# Altium schematic symbol library Schlib3.SchLib: 23 symbols
Pins are listed as number, name and electrical type; pins without a type are passive.

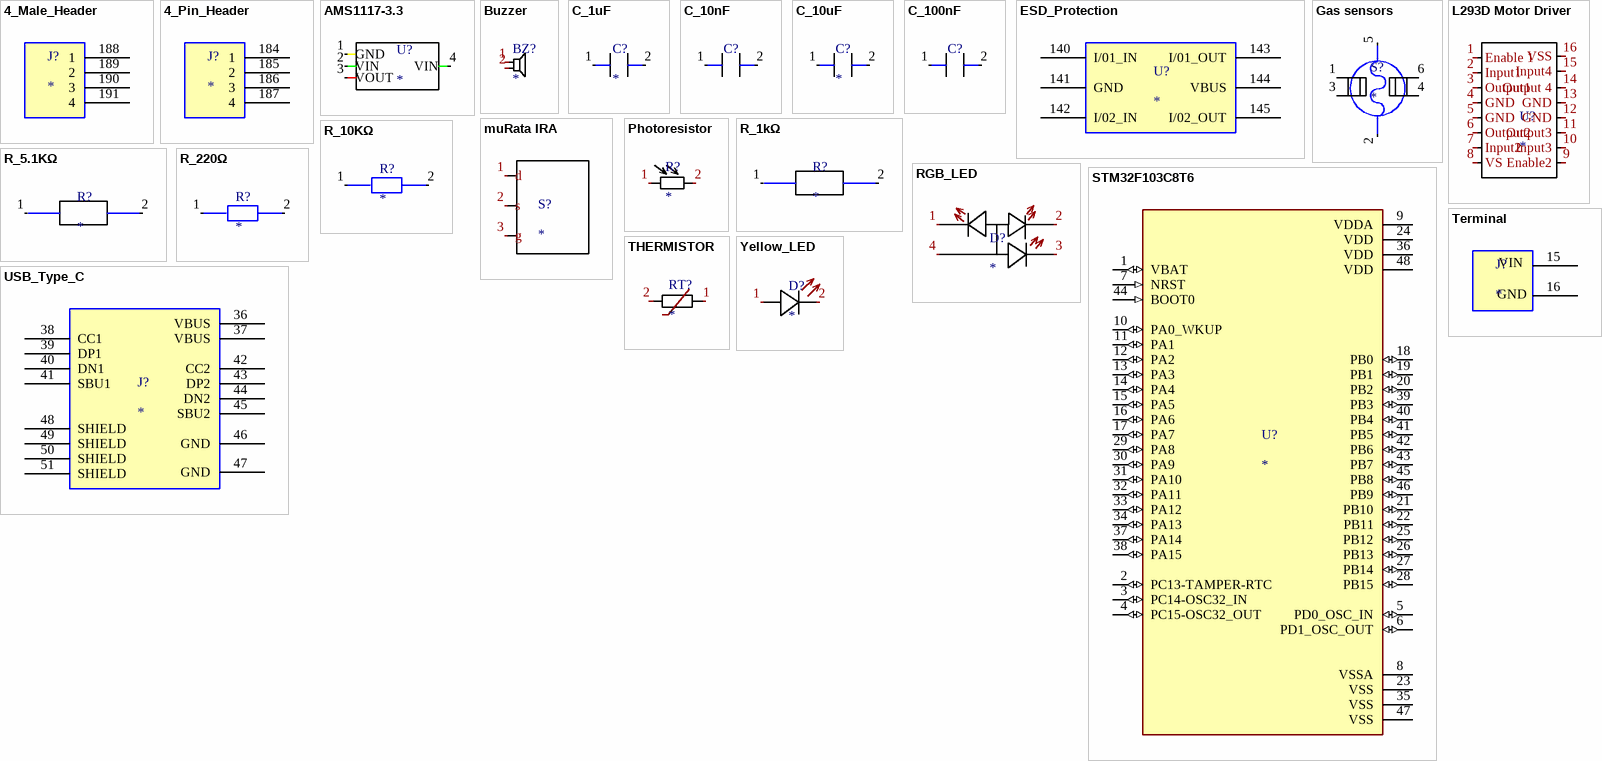
[diagram p0: symbols 4_Male_Header to Yellow_LED]

## 4_Male_Header
designator J?
PCB Mount Header, Vertical, Wire-to-Board, 4 Position, 2.54 mm Centerline, Partially Shrouded, Gold, Through Hole - Solder, Signal; MFR: TE Connectivity; MFR Part #: 3-641215-4; Supplier: LCSC; Supplier Part #: C5119032; ComponentLink1Description: Supplier Part Page; ComponentLink1URL: https://www.lcsc.com/product-detail/C5119032.html?s_z=n_q_3-641215-4&spm=wm.fly.bg.0.xh&lcsc_vid=RVdfAQAHTlQNBQIDRgNYVAdUQ1hWXlBRQ1kLVlcDRVkxVlNeQFNcX1FURVRaVzsOAxUeFF5JWBYZEEoKFBINSQcJGk4dAgUUFAk%3D
footprint 4_MALE_HEADER
pins: 188 1, 189 2, 190 3, 191 4

## 4_Pin_Header
designator J?
Couldn't find on LCSC. 4 Position Elevated Socket Connector 0.100" (2.54mm) Through Hole Tin; MFR: SMATEC; MFR Part #: ESW-104-23-T-S-LL; Supplier: SnapMagic; Supplier Part #: ESW-104-23-T-S-LL
footprint 4_PIN_HEADER
pins: 184 1, 185 2, 186 3, 187 4

## AMS1117-3.3
designator U?
1A Low Dropout (LDO) Regulator; MFU part #: AMS1117-3.3; MFU: Advanced Monolithic Systems; Supplier: LCSC; Supplier part #: C6186; ComponentLink1Description: Datasheet; ComponentLink1URL: https://www.lcsc.com/datasheet/C6187.pdf?spm=wm.sxq.inf.ggs&lcsc_vid=QAQMVlZTQQVfVwJVQgNaVAUDRlAKAlQCTwJdAQVSRFgxVlNeQVZcVFVRRFlWUzsOAxUeFF5JWBYZEEoEHg8JSQcJGk4%3D
footprint AMS1117_3.3V (SOT223, 4-Leads, Body 6.48x7.00mm (avg), Pitch 2.30mm, IPC Medium Density)
pins: 1 GND, 2 VIN, 3 VOUT, 4 VIN

## Buzzer
designator BZ?
Active Buzzer (Built-in Driving Circuit) 2.4kHz 5V Electromagnetic Through Hole,D=12mm Alarms, Buzzers, and Sirens RoHS; MF: CUI; MPU: CMI-1295IC-0585T; Supplier: LCSC; Supplier part #: C6143962; ComponentLink1Description: Datasheet; ComponentLink1URL: https://www.lcsc.com/datasheet/C6143962.pdf?spm=wm.sxq.inf.ggs___wm.fly.bg.26.xh&lcsc_vid=EwQNUwAFEwJeBFwCQlANU10CTwBcVlBTFAMMV1FeQFkxVlNeT1hfV1VeRFhaVDsOAxUeFF5JWBYZEEoKFBINSQcJGk4eFQsCAgIaSgADAwAHC0slRlNdU1RIHxUDCw%3D%3D
footprint BUZZER
pins: 1 5, 2 6

## C_1uF
designator C?
CAP CER 1uF 50V X7R 0805; MFR: Samsung Electro-Mechanics; MFR Part #: CL21B105KBFNNNE; Supplier: LCSC; Supplier Part #: C28323; ComponentLink1Description: Supplier Part Page; ComponentLink1URL: https://www.lcsc.com/product-detail/C28323.html?s_z=n_q_t_capacitor%25201uF%25200805&spm=wm.fly.bg.0.xh___wm.ssy.tc.0.tz&lcsc_vid=RVdfAQAHTlQNBQIDRgNYVAdUQ1hWXlBRQ1kLVlcDRVkxVlNeQFNcUlVTRVdZXjsOAxUeFF5JWBYZEEoKFBINSQcJGk4NBhADEA4cHktXRlVcSQwSGg0%3D
footprint CAP_1uF
pins: 1, 2

## C_10nF
designator C?
CAP CER 10nF 50V X7R 0805; MFR: Samsung Electro-Mechanics; MFR part#: CL21B103KBANNNC; Supplier: LCSC; Suppliere part #: C1710; ComponentLink1Description: Datasheet; ComponentLink1URL: https://www.lcsc.com/datasheet/C1710.pdf?spm=wm.sxq.inf.ggs___wm.fly.bg.0.xh&lcsc_vid=E1EMUFFTQQILUVRVRlhaUAYEQ1RWA1RTFlhWXwYAQlkxVlNeT1hWUldWT1NZUDsOAxUeFF5JWBYZEEoKFBINSQcJGk4dAgUUFAk%3D
footprint CAP_10nF
pins: 1, 2

## C_10uF
designator C?
CAP CER 10uF 25V X5R 0805; MFR: Samsung Electro-Mechanics; MFR Part #: CL21A106KAYNNNE; Supplier: LCSC; Supplier Part #: C15850; ComponentLink1Description: Suplpier Part Page; ComponentLink1URL: *
footprint CAP_10uF
pins: 1, 2

## C_100nF
designator C?
CAP CER 100nF 50V X7R 0805; MFR: YAGEO; MFR part#: CC0805KRX7R9BB104; Supplier: LCSC; Suppliere part #: C49678; ComponentLink1Description: Datasheet; ComponentLink1URL: https://www.lcsc.com/datasheet/C49678.pdf?spm=wm.sxq.inf.ggs___wm.ssy.bg.0.stp&lcsc_vid=FFBcUFxVQVVWBFxVE1ZfBgICQQBZBlZTQ1VaUl1TQwQxVlNeQVZfXlRXRllbUTsOAxUeFF5JWBYZEEoKFBINSQcJGk4%3D
footprint CAP_100nF
pins: 1, 2

## ESD_Protection
designator U?
ESD DIODE 5.25VWM 17VC SOT-23-6L; MFR: ST; MFR Part #: USBLC6-2SC6; Supplier: LCSC; Supplier Part #: C7519; ComponentLink1Description: Supplier Part Page; ComponentLink1URL: https://www.lcsc.com/product-detail/C7519.html?s_z=s_p_USBLC6-2SC6&spm=wm.fly.bg.0.xh&lcsc_vid=RVdfAQAHTlQNBQIDRgNYVAdUQ1hWXlBRQ1kLVlcDRVkxVlNeQFBaVF1VT1haUTsOAxUeFF5JWBYZEEoKFBINSQcJGk4dAgUUFAk%3D
footprint ESD_PROTECTION
pins: 140 I/01_IN, 141 GND, 142 I/02_IN, 143 I/01_OUT, 144 VBUS, 145 I/02_OUT

## Gas sensors
designator S?
300ppm~10000ppm Through Hole Gas Sensors; MPN: MQ-5; MF: Zhengzhou Winsen Elec Tech; Supplier: LCSC; Supplier Part #: C99297; ComponentLink1Description: Datasheet; ComponentLink1URL: https://www.lcsc.com/datasheet/C99297.pdf?spm=wm.sxq.inf.ggs___wm.ssy.em.0.tz&lcsc_vid=E1EMUFFTQQILUVRVRlhaUAYEQ1RWA1RTFlhWXwYAQlkxVlNeT1JYVF1QQ1ZWUjsOAxUeFF5JWBYZEEoKFBINSQcJGk4eFQsCAgIaSgADAwAHC0slQ1NaVFVeQVZADxALGw%3D%3D
footprint GAS_SENSOR
pins: 1, 2, 3, 4, 5, 6

## L293D Motor Driver
designator U?
PUSH-PULL FOUR CHANNEL DRIVER WITH DIODES; MFR: HGSEMI; MRF Part #: L293DDM/TR; Supplier: LCSC; Supplier Part #: C2973803; ComponentLink1Description: Datasheet; ComponentLink1URL: https://www.lcsc.com/datasheet/C2973803.pdf?spm=wm.sxq.inf.ggs___wm.fly.bg.1.xh&lcsc_vid=E1EMUFFTQQILUVRVRlhaUAYEQ1RWA1RTFlhWXwYAQlkxVlNeT1hZUFxVT1RXVzsOAxUeFF5JWBYZEEoKFBINSQcJGk4%3D
footprint L293D (SOJ, 16-Leads, Body 20.00x8.80mm, Pitch 2.54mm, IPC Low Density)
pins: 1 Enable 1, 2 Input1, 3 Output1, 4 GND, 5 GND, 6 Output2, 7 Input2, 8 VS, 9 Enable2, 10 Input3, 11 Output3, 12 GND, 13 GND, 14 Output 4, 15 Input4, 16 VSS

## muRata IRA
designator S?
Through Hole Optical Motion Sensors RoHS; MPN: IRA-S210ST01; MF: muRata; Supplier: LCSC; Supplier Part #: C152563; ComponentLink1Description: Datasheet; ComponentLink1URL: https://www.lcsc.com/datasheet/C152563.pdf?spm=wm.sxq.inf.ggs___wm.fly.bg.0.xh&lcsc_vid=E1EMUFFTQQILUVRVRlhaUAYEQ1RWA1RTFlhWXwYAQlkxVlNeT1JYVFZXRVhcUDsOAxUeFF5JWBYZEEoKFBINSQcJGk4dAgUUFAk%3D
footprint OPTICAL_SENSOR
pins: 1 d, 2 s, 3 g

## Photoresistor
designator R?
540nm 5kΩ~10kΩ 500kΩ Through Hole,P=3mm Photoresistors; MPN: GL5516; MF: Senba Sensing Tech; Supplier: LCSC; Supplier part #: C125626; ComponentLink1Description: Datasheet; ComponentLink1URL: https://www.lcsc.com/datasheet/C125626.pdf?spm=wm.sxq.inf.ggs___wm.ssy.bg.1.xh&lcsc_vid=E1EMUFFTQQILUVRVRlhaUAYEQ1RWA1RTFlhWXwYAQlkxVlNeT1JYU1dRT1heVTsOAxUeFF5JWBYZEEoKFBINSQcJGk4NBhADEA4cHktQRVVADxALGw%3D%3D
footprint PHOTORESISTOR
pins: 1, 2

## R_1kΩ
designator R?
RES 1kΩ ±1% 100mW 0805; MFU part #: FRC0603F1001TS; MFU: FOJAN; Supplier: LCSC; Supplier part #: C2907002; ComponentLink1Description: Datasheet; ComponentLink1URL: https://www.lcsc.com/datasheet/C2907002.pdf?spm=wm.sxq.inf.ggs___wm.fly.bg.3.xh&lcsc_vid=QAQMVlZTQQVfVwJVQgNaVAUDRlAKAlQCTwJdAQVSRFgxVlNeQVZcVl1fTlhaUjsOAxUeFF5JWBYZEEoEHg8JSQcJGk4%3D
footprint RES_1K
pins: 1 14, 2 15

## R_5.1KΩ
designator R?
RES 5.1kΩ ±1% 125mW 0805; MFR: UNI-ROYAL; MFR Part #: 0805W8F5101T5E; Supplier: LCSC; Supplier Part #: C27834; ComponentLink1Description: Supplier Part Page; ComponentLink1URL: https://www.lcsc.com/product-detail/C27834.html?s_z=n_q_p_resistor%25205.1K%2520ohm%25200805&spm=wm.ssy.bg.0.xh&lcsc_vid=RVdfAQAHTlQNBQIDRgNYVAdUQ1hWXlBRQ1kLVlcDRVkxVlNeQFBaUVFQRlVeUTsOAxUeFF5JWBYZEEoKFBINSQcJGk4NBhADEA4cHktXRlhXSQwSGg0%3D
footprint RES_5.1K
pins: 1 14, 2 15

## R_10KΩ
designator R?
RES 10kΩ ±1% 125mW 0805; MFR: FOJAN; MFR Part #: FRC0805F1002TS; Supplier: LCSC; Supplier Part #: C2907219; ComponentLink1Description: Supplier Part Page; ComponentLink1URL: https://www.lcsc.com/product-detail/C2907219.html?s_z=n_q_p_resistor%252010K%2520ohm%25200805&spm=wm.ssy.bg.0.xh&lcsc_vid=RVdfAQAHTlQNBQIDRgNYVAdUQ1hWXlBRQ1kLVlcDRVkxVlNeQFBaUVNST1NfVjsOAxUeFF5JWBYZEEoKFBINSQcJGk4dAgUUFAk%3D
footprint RES_10K
pins: 1 14, 2 15

## R_220Ω
designator R?
RES 220Ω ±1% 125mW 0805; MFR: UNI-ROYAL; MFR Part #: 0805W8F2200T5E; Supplier: LCSC; Supplier Part #: C17557; ComponentLink1Description: Supplier Part Page; ComponentLink1URL: https://www.lcsc.com/product-detail/C17557.html?s_z=n_q_resistor%2520220%2520ohm%25200805&spm=wm.fly.bg.0.xh&lcsc_vid=RVdfAQAHTlQNBQIDRgNYVAdUQ1hWXlBRQ1kLVlcDRVkxVlNeQFBaUVdQRVVeUDsOAxUeFF5JWBYZEEoKFBINSQcJGk4eFQsCAgIaSgADAwAHC0slQFRfXkoOAwwC
footprint RES_220
pins: 1 14, 2 15

## RGB_LED
designator D?
120° SMD-4P,2x1.2mm LED Indication - Discrete; MPN: MHT170RGBCT; MF: MEIHUA; Supplier: LCSC; Supplier part #: C2962094; ComponentLink1Description: Datasheet; ComponentLink1URL: https://www.lcsc.com/datasheet/C2962094.pdf?spm=wm.sxq.inf.ggs&lcsc_vid=EwQNUwAFEwJeBFwCQlANU10CTwBcVlBTFAMMV1FeQFkxVlNeT1deXlFfQlVbVztW
footprint RGB_LED
pins: 1 13, 2, 3, 4

## STM32F103C8T6
designator U?
-40℃~+85℃ 12bit 20KB 2V~3.6V 32 Bit 37 64KB 72MHz ARM Cortex-M3 Built-in FLASH LQFP-48(7x7) Microcontrollers (MCU/MPU/SOC) ROHS; MF: STMicroelectronics; MFR PART #: STMicroelectronics; Supplier: JLCPCB; Supplier Part #: C8734; ComponentLink1Description: Datasheet; ComponentLink1URL: https://jlc-prod-smt.oss-eu-central-1.aliyuncs.com/smtDataManualFile/8579708215770480640-C8734.pdf?response-content-disposition=attachment%3B%20filename%3DC8734.pdf%3B%20filename%2A%3DUTF-8%27%27C8734.pdf&x-oss-date=20260822T112136Z&x-oss-expires=1800&x-oss-security-token=CAISgAN1q6Ft5B2yfSjIr5r9HuPMuopW9JKdbW3Sg0MBbvdkhped1jz2IHhMdHJsAOodtv0%2FmmhT6PkclqRLcbhpcmfjV%2BZHzLB8qf5B%2Bykr557b16cNrbH4M4H6aXeirtuwDsz9SNTCALjPD3nPii50x5bjaDymRCbLGJaViJlhHLN1Ow6jdmhpCctxLAlvo9NgFxm3D%2Fu2NQPwiWf9FVdhvhEG6Vly8qOi2MaRmFy8yFTx0b0SvJ%2BjYMrmPctoN9JnSdC5mfdzau3a1TJ84gRD0a5wkaVA1zbDs5bfISEIuUzebreLqY03dV4mOvdqIcMe8qigz88fk%2FfIioH6xyxKOexoSCnFTOiiupCcQLPyao9jLu6iayqViY7QaIOTqQohZmkAMwVOasAsI3Ngh4zF97Qt0cVNkXO9gWfLI8DtuMleWmpnyfoJs6HD0eS19jklBdzSlusJRAJJUVBflCeKEaRNSAd3WGhEfM2%2BBt4QT30w5N2u00S8OSMILh50ZKKWD5sagAERxjOFVQunN%2FMP%2B4pPj192lIv%2Fb%2FBhYoH1dXybskWmVsGIA0U6FIyufmkP83RoZanjtyEj%2FMYM6ZCoxn9wNR1FUWyys6LeuQiyfFaBwd42eAW9cxY8QGfZwYhiboSH%2Bd%2FHYxRsYJhTEvCPbbJHyAklPAFDR4R0AEccKLctMzybhSAA&x-oss-signature-version=OSS4-HMAC-SHA256&x-oss-credential=STS.NYHUYxWUwCPvoKcgCTbxHiR64%2F20260822%2Feu-central-1%2Foss%2Faliyun_v4_request&x-oss-signature=046f7eb699a18f694d803c947e8fbc0a7e9770749a7982aa4ec2455890b0bf02
footprint STM32 (LQFP, 48-Leads, Body 11.50x11.50mm, Pitch 0.50mm, IPC Medium Density)
pins: 1 VBAT (io), 2 PC13-TAMPER-RTC (io), 3 PC14-OSC32_IN (io), 4 PC15-OSC32_OUT (io), 5 PD0_OSC_IN (io), 6 PD1_OSC_OUT (io), 7 NRST (in), 8 VSSA (power), 9 VDDA (power), 10 PA0_WKUP (io), 11 PA1 (io), 12 PA2 (io), 13 PA3 (io), 14 PA4 (io), 15 PA5 (io), 16 PA6 (io), 17 PA7 (io), 18 PB0 (io), 19 PB1 (io), 20 PB2 (io), 21 PB10 (io), 22 PB11 (io), 23 VSS (power), 24 VDD (power), 25 PB12 (io), 26 PB13 (io), 27 PB14 (io), 28 PB15 (io), 29 PA8 (io), 30 PA9 (io), 31 PA10 (io), 32 PA11 (io), 33 PA12 (io), 34 PA13 (io), 35 VSS (power), 36 VDD (power), 37 PA14 (io), 38 PA15 (io), 39 PB3 (io), 40 PB4 (io), 41 PB5 (io), 42 PB6 (io), 43 PB7 (io), 44 BOOT0 (in), 45 PB8 (io), 46 PB9 (io), 47 VSS (power), 48 VDD (power)

## Terminal
designator J?
0.05~1.3 -40℃~+110℃ 13.5A 1x2P Green 16~30 Through Hole 2 1 5.08mm Through Hole Wire to Board RoHS; MFR: TE Connectivity; MFR Part #: 282837-2; Supplier: LCSC; Supplier Part #: C592976; ComponentLink1Description: Supplier Page Link; ComponentLink1URL: https://www.lcsc.com/product-detail/C592976.html?s_z=n_q_282837-2&spm=wm.fly.bg.0.xh&lcsc_vid=RVdfAQAHTlQNBQIDRgNYVAdUQ1hWXlBRQ1kLVlcDRVkxVlNeQVVbUVJXT1RdUTsOAxUeFF5JWBYZEEoKFBINSQcJGk4NBhADEA4cHkteQ1NADxALGw%3D%3D
footprint Terminal Block
pins: 15, 16
text: VIN; GND

## THERMISTOR
designator RT?
THERMISTOR NTC 10kΩ 3950K 0805; MPN #: KNTC0805/10KF3950; MF: KUU; Supplier: LCSC; Supplier part #: C2892549; ComponentLink1Description: Datasheet; ComponentLink1URL: https://www.lcsc.com/datasheet/C2892549.pdf?spm=wm.sxq.inf.ggs___wm.fly.bg.2.xh&lcsc_vid=E1EMUFFTQQILUVRVRlhaUAYEQ1RWA1RTFlhWXwYAQlkxVlNeT1JYVV1fQVFWVzsOAxUeFF5JWBYZEEoKFBINSQcJGk4%3D
footprint NTC_THERMISTOR
pins: 1, 2

## USB_Type_C
designator J?
CONN RCPT Type-C 16POS SMD; MFR: Korean Hroparts Elec; MFR Part #: TYPE-C-31-M-12; Supplier: LCSC; Supplier Part #: C165948; ComponentLink1Description: Supplier Part Link; ComponentLink1URL: https://www.lcsc.com/product-detail/C165948.html?s_z=n_q_p_USB%2520type%2520C%2520jack&spm=wm.ssy.bg.1.xh&lcsc_vid=RVdfAQAHTlQNBQIDRgNYVAdUQ1hWXlBRQ1kLVlcDRVkxVlNeQVRbX1xSR1hWXjsOAxUeFF5JWBYZEEoKFBINSQcJGk4dAgUUFAk%3D
footprint USB_TYPE_C
pins: 36 VBUS, 37 VBUS, 38 CC1, 39 DP1, 40 DN1, 41 SBU1, 42 CC2, 43 DP2, 44 DN2, 45 SBU2, 46 GND, 47 GND, 48 SHIELD, 49 SHIELD, 50 SHIELD, 51 SHIELD

## Yellow_LED
designator D?
LED YELLOW GREEN 0805 SMD; MFU: YONGYUTAI; MFU code #: YLED0805YG; Supplier: LCSC; Supplier code #: C19171393; ComponentLink1Description: Datasheet; ComponentLink1URL: https://www.lcsc.com/datasheet/C19171393.pdf?spm=wm.sxq.inf.ggs___wm.fly.bg.6.xh&lcsc_vid=E1EMUFFTQQILUVRVRlhaUAYEQ1RWA1RTFlhWXwYAQlkxVlNeT1JYU1JRRFhbVTsOAxUeFF5JWBYZEEoKFBINSQcJGk4dAgUUFAk%3D
footprint LED_YELLOW
pins: 1 13, 2